# Altium footprint library Flex-strap-340x105.PcbLib: 1 footprints
Each footprint in its own frame and in the unit in brackets; x right, y up, seen from the top. Pads: shape width x height; smd on the part's side, far side on the other; paste and mask are expansions set on the pad; w line width, h text height; cw(c..) or ccw(c..) is an arc to the next point about the centre after c.
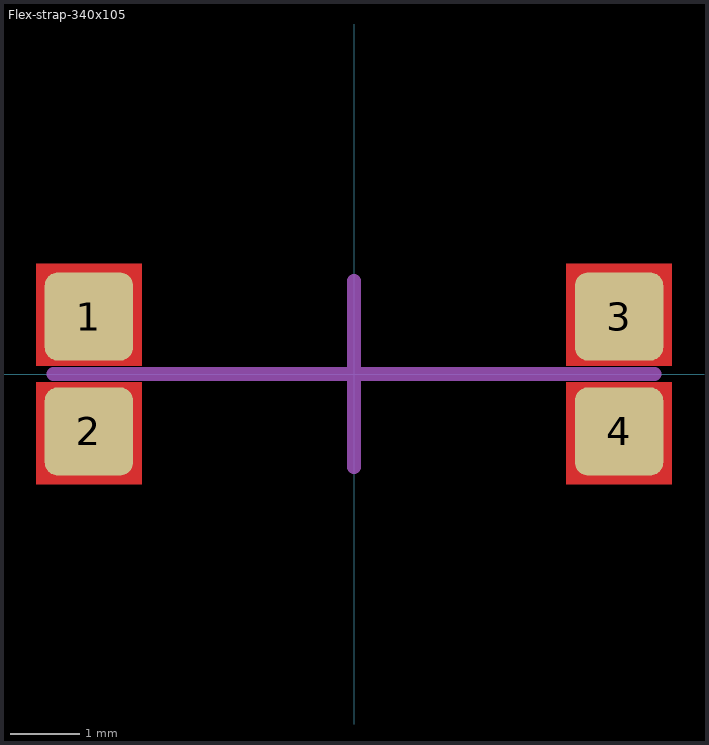
[diagram p0: the footprint, top view; thin cyan lines are the x and y axes]

## Flex-strap-340x105 [mil] "Without cutout"
pads (4):
  rrect30% 50x50 smd paste-4 mask+0: 1(-150,32.5) 2(-150,-32.5) 3(150,32.5) 4(150,-32.5)
Top Layer:
  rectangle: 120,4.5 180,62.5
  rectangle: 120,-62.5 180,-4.5
  rectangle: -180,4.5 -120,62.5
  rectangle: -180,-62.5 -120,-4.5
Mechanical 1:
  lines w7.87: -170,0 170,0 ; 0,52.5 0,-52.5 0,-0.01 ; 0,-0.01 ccw(c0,-0.01) 0,0
3D body: height 10, standoff 0, extent -170,-52.5 170,52.5